# Altium footprint library PcbLib1.PcbLib: 20 footprints (part 2 of 2)
Each footprint in its own frame and in the unit in brackets; x right, y up, seen from the top. Pads: shape width x height; smd on the part's side, far side on the other; paste and mask are expansions set on the pad; w line width, h text height; cw(c..) or ccw(c..) is an arc to the next point about the centre after c.
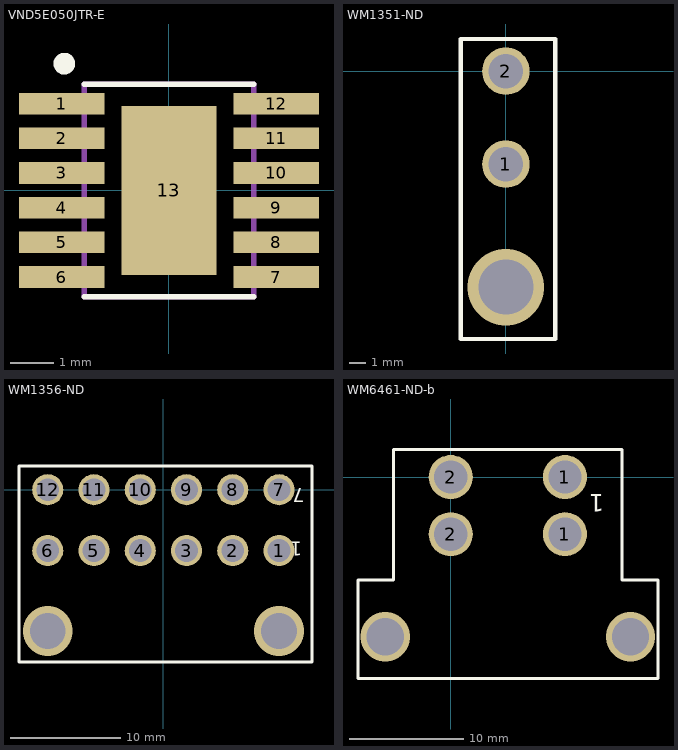
[diagram p1: the footprints below, top view; thin cyan lines are the x and y axes]

## VND5E050JTR-E [mm]
pads (13):
  rect 1.97x0.5 smd: 1(-2.475,2) 2(-2.475,1.2) 3(-2.475,0.4) 4(-2.475,-0.4) 5(-2.475,-1.2) 6(-2.475,-2) 7(2.475,-2) 8(2.475,-1.2) 9(2.475,-0.4) 10(2.475,0.4) 11(2.475,1.2) 12(2.475,2)
  rect 2.2x3.9 smd: 13(0,0)
Top Overlay:
  circle w0.25: c-2.413,2.921 r0.125
  lines w0.127: -1.95,-2.45 1.95,-2.45 ; -1.95,2.45 1.95,2.45
Top Paste:
  region: -0.661,1.05 0.645,1.05 0.645,-1.076 -0.661,-1.076
Mechanical 4:
  lines w0.127: -1.95,-2.45 1.95,-2.45 ; -1.95,-2.45 -1.95,2.45 ; -1.95,-2.45 1.95,-2.45 ; -1.95,-2.45 -1.95,2.45 ; -1.95,2.45 1.95,2.45 ; -1.95,2.45 1.95,2.45 ; 1.95,-2.45 1.95,2.45 ; 1.95,-2.45 1.95,2.45

## WM1351-ND [mil]
pads (2):
  round 111 hole 81: 1(0,-217) 2(0,0)
via 0,-504 diameter 178 hole 128
Top Overlay:
  lines w10: -105,-625 -105,75 115,75 115,-625 -105,-625
3D body "WM1351-ND.stp": height 448.82, standoff -141.73, extent -108.35,-767.42 120,17.42

## WM1356-ND [mil]
pads (12):
  round 111 hole 81: 1(412.5,-217) 2(247.5,-217) 3(82.5,-217) 4(-82.5,-217) 5(-247.5,-217) 6(-412.5,-217) 7(412.5,0) 8(247.5,0) 9(82.5,0) 10(-82.5,0) 11(-247.5,0) 12(-412.5,0)
via -412.5,-504 diameter 178 hole 128
via 412.5,-504 diameter 178 hole 128
Top Overlay:
  lines w10: -515,-615 -515,85 530,85 530,-615 -515,-615
  text "7" at 505,5 h50
  text "1" at 495,-185 h50
3D body "WM1356-ND.stp": height 448.82, standoff -141.73, extent -519.68,-765 535.44,19.84

## WM6461-ND-b [mil]
pads (4):
  round 152 hole 115: 1(394,-197) 1(394,0) 2(0,-197) 2(0,0)
via 620,-551 diameter 170 hole 128
via -226,-551 diameter 170 hole 128
Top Overlay:
  lines w10: -320,-695 -320,-355 -196.85,-355 -196.85,95 590.55,95 590.55,-355 715,-355 715,-695 -320,-695
  text "1" at 530,-60 h60
3D body "428202213.stp": height 554.96, standoff -135.98, extent -273.9,-1080.51 663.9,65.16